# EAGLE library part IMXRT1062DV (library Teensy)
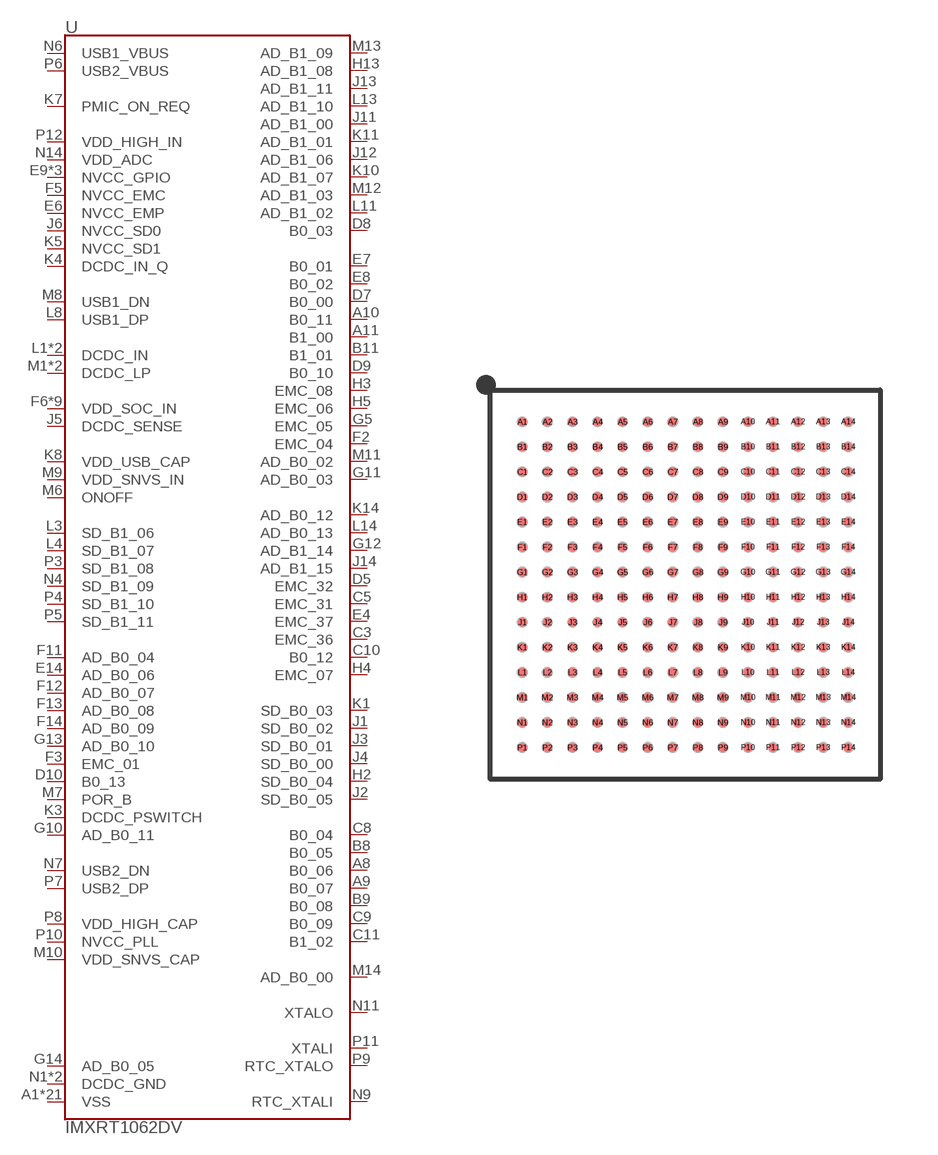
[diagram p0: symbol with the pads of IMXRT1062; footprint IMXRT1062]

Designator prefix U

## IMXRT1062DV10X10 (PROD_ID: IC-14904)  [IMXRT1062]
A1  VSS
A8  B0_06
A9  B0_07
A10  B0_11
A11  B1_00
A14  VSS
B5  VSS
B8  B0_05
B9  B0_08
B10  VSS
B11  B1_01
C3  EMC_36
C5  EMC_31
C8  B0_04
C9  B0_09
C10  B0_12
C11  B1_02
D5  EMC_32
D7  B0_00
D8  B0_03
D9  B0_10
D10  B0_13
E2  VSS
E4  EMC_37
E6  NVCC_EMP
E7  B0_01
E8  B0_02
E9  NVCC_GPIO
E13  VSS
E14  AD_B0_06
F2  EMC_04
F3  EMC_01
F5  NVCC_EMC
F6  VDD_SOC_IN
F7  VDD_SOC_IN
F8  VDD_SOC_IN
F9  VDD_SOC_IN
F10  NVCC_GPIO
F11  AD_B0_04
F12  AD_B0_07
F13  AD_B0_08
F14  AD_B0_09
G5  EMC_05
G6  VDD_SOC_IN
G7  VSS
G8  VSS
G9  VDD_SOC_IN
G10  AD_B0_11
G11  AD_B0_03
G12  AD_B1_14
G13  AD_B0_10
G14  AD_B0_05
H2  SD_B0_04
H3  EMC_08
H4  EMC_07
H5  EMC_06
H6  VDD_SOC_IN
H7  VSS
H8  VSS
H9  VDD_SOC_IN
H13  AD_B1_08
J1  SD_B0_02
J2  SD_B0_05
J3  SD_B0_01
J4  SD_B0_00
J5  DCDC_SENSE
J6  NVCC_SD0
J7  VSS
J8  VSS
J9  VDD_SOC_IN
J10  NVCC_GPIO
J11  AD_B1_00
J12  AD_B1_06
J13  AD_B1_11
J14  AD_B1_15
K1  SD_B0_03
K2  VSS
K3  DCDC_PSWITCH
K4  DCDC_IN_Q
K5  NVCC_SD1
K6  VSS
K7  PMIC_ON_REQ
K8  VDD_USB_CAP
K9  VSS
K10  AD_B1_07
K11  AD_B1_01
K13  VSS
K14  AD_B0_12
L1  DCDC_IN
L2  DCDC_IN
L3  SD_B1_06
L4  SD_B1_07
L8  USB1_DP
L9  VSS
L11  AD_B1_02
L13  AD_B1_10
L14  AD_B0_13
M1  DCDC_LP
M2  DCDC_LP
M6  ONOFF
M7  POR_B
M8  USB1_DN
M9  VDD_SNVS_IN
M10  VDD_SNVS_CAP
M11  AD_B0_02
M12  AD_B1_03
M13  AD_B1_09
M14  AD_B0_00
N1  DCDC_GND
N2  DCDC_GND
N4  SD_B1_09
N5  VSS
N6  USB1_VBUS
N7  USB2_DN
N8  VSS
N9  RTC_XTALI
N11  XTALO
N14  VDD_ADC
P1  VSS
P3  SD_B1_08
P4  SD_B1_10
P5  SD_B1_11
P6  USB2_VBUS
P7  USB2_DP
P8  VDD_HIGH_CAP
P9  RTC_XTALO
P10  NVCC_PLL
P11  XTALI
P12  VDD_HIGH_IN
P14  VSS

## Footprint IMXRT1062 (pad centres in mm)
smd 0.234 x 0.234: A1 -4.225,4.225; A2 -3.575,4.225; A3 -2.925,4.225; A4 -2.275,4.225; A5 -1.625,4.225; A6 -0.975,4.225; A7 -0.325,4.225; A8 0.325,4.225; A9 0.975,4.225; A10 1.625,4.225; A11 2.275,4.225; A12 2.925,4.225; A13 3.575,4.225; A14 4.225,4.225; B1 -4.225,3.575; B2 -3.575,3.575; B3 -2.925,3.575; B4 -2.275,3.575; B5 -1.625,3.575; B6 -0.975,3.575; B7 -0.325,3.575; B8 0.325,3.575; B9 0.975,3.575; B10 1.625,3.575; B11 2.275,3.575; B12 2.925,3.575; B13 3.575,3.575; B14 4.225,3.575; C1 -4.225,2.925; C2 -3.575,2.925; C3 -2.925,2.925; C4 -2.275,2.925; C5 -1.625,2.925; C6 -0.975,2.925; C7 -0.325,2.925; C8 0.325,2.925; C9 0.975,2.925; C10 1.625,2.925; C11 2.275,2.925; C12 2.925,2.925; C13 3.575,2.925; C14 4.225,2.925; D1 -4.225,2.275; D2 -3.575,2.275; D3 -2.925,2.275; D4 -2.275,2.275; D5 -1.625,2.275; D6 -0.975,2.275; D7 -0.325,2.275; D8 0.325,2.275; D9 0.975,2.275; D10 1.625,2.275; D11 2.275,2.275; D12 2.925,2.275; D13 3.575,2.275; D14 4.225,2.275; E1 -4.225,1.625; E2 -3.575,1.625; E3 -2.925,1.625; E4 -2.275,1.625; E5 -1.625,1.625; E6 -0.975,1.625; E7 -0.325,1.625; E8 0.325,1.625; E9 0.975,1.625; E10 1.625,1.625; E11 2.275,1.625; E12 2.925,1.625; E13 3.575,1.625; E14 4.225,1.625; F1 -4.225,0.975; F2 -3.575,0.975; F3 -2.925,0.975; F4 -2.275,0.975; F5 -1.625,0.975; F6 -0.975,0.975; F7 -0.325,0.975; F8 0.325,0.975; F9 0.975,0.975; F10 1.625,0.975; F11 2.275,0.975; F12 2.925,0.975; F13 3.575,0.975; F14 4.225,0.975; G1 -4.225,0.325; G2 -3.575,0.325; G3 -2.925,0.325; G4 -2.275,0.325; G5 -1.625,0.325; G6 -0.975,0.325; G7 -0.325,0.325; G8 0.325,0.325; G9 0.975,0.325; G10 1.625,0.325; G11 2.275,0.325; G12 2.925,0.325; G13 3.575,0.325; G14 4.225,0.325; H1 -4.225,-0.325; H2 -3.575,-0.325; H3 -2.925,-0.325; H4 -2.275,-0.325; H5 -1.625,-0.325; H6 -0.975,-0.325; H7 -0.325,-0.325; H8 0.325,-0.325; H9 0.975,-0.325; H10 1.625,-0.325; H11 2.275,-0.325; H12 2.925,-0.325; H13 3.575,-0.325; H14 4.225,-0.325; J1 -4.225,-0.975; J2 -3.575,-0.975; J3 -2.925,-0.975; J4 -2.275,-0.975; J5 -1.625,-0.975; J6 -0.975,-0.975; J7 -0.325,-0.975; J8 0.325,-0.975; J9 0.975,-0.975; J10 1.625,-0.975; J11 2.275,-0.975; J12 2.925,-0.975; J13 3.575,-0.975; J14 4.225,-0.975; K1 -4.225,-1.625; K2 -3.575,-1.625; K3 -2.925,-1.625; K4 -2.275,-1.625; K5 -1.625,-1.625; K6 -0.975,-1.625; K7 -0.325,-1.625; K8 0.325,-1.625; K9 0.975,-1.625; K10 1.625,-1.625; K11 2.275,-1.625; K12 2.925,-1.625; K13 3.575,-1.625; K14 4.225,-1.625; L1 -4.225,-2.275; L2 -3.575,-2.275; L3 -2.925,-2.275; L4 -2.275,-2.275; L5 -1.625,-2.275; L6 -0.975,-2.275; L7 -0.325,-2.275; L8 0.325,-2.275; L9 0.975,-2.275; L10 1.625,-2.275; L11 2.275,-2.275; L12 2.925,-2.275; L13 3.575,-2.275; L14 4.225,-2.275; M1 -4.225,-2.925; M2 -3.575,-2.925; M3 -2.925,-2.925; M4 -2.275,-2.925; M5 -1.625,-2.925; M6 -0.975,-2.925; M7 -0.325,-2.925; M8 0.325,-2.925; M9 0.975,-2.925; M10 1.625,-2.925; M11 2.275,-2.925; M12 2.925,-2.925; M13 3.575,-2.925; M14 4.225,-2.925; N1 -4.225,-3.575; N2 -3.575,-3.575; N3 -2.925,-3.575; N4 -2.275,-3.575; N5 -1.625,-3.575; N6 -0.975,-3.575; N7 -0.325,-3.575; N8 0.325,-3.575; N9 0.975,-3.575; N10 1.625,-3.575; N11 2.275,-3.575; N12 2.925,-3.575; N13 3.575,-3.575; N14 4.225,-3.575; P1 -4.225,-4.225; P2 -3.575,-4.225; P3 -2.925,-4.225; P4 -2.275,-4.225; P5 -1.625,-4.225; P6 -0.975,-4.225; P7 -0.325,-4.225; P8 0.325,-4.225; P9 0.975,-4.225; P10 1.625,-4.225; P11 2.275,-4.225; P12 2.925,-4.225; P13 3.575,-4.225; P14 4.225,-4.225